# Altium footprint library amass_xt30upb-m.PcbLib: 1 footprints
Each footprint in its own frame and in the unit in brackets; x right, y up, seen from the top. Pads: shape width x height; smd on the part's side, far side on the other; paste and mask are expansions set on the pad; w line width, h text height; cw(c..) or ccw(c..) is an arc to the next point about the centre after c.
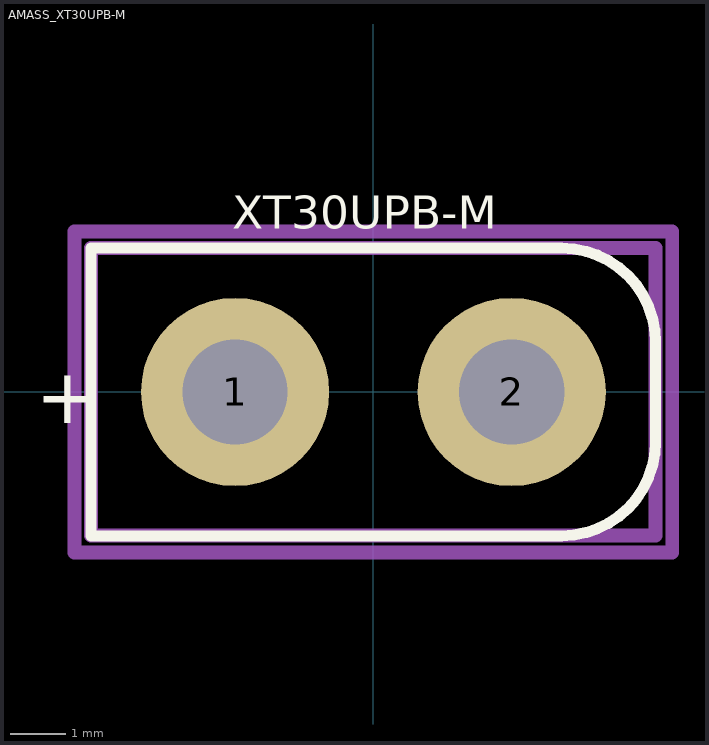
[diagram p0: the footprint, top view; thin cyan lines are the x and y axes]

## AMASS_XT30UPB-M [mm]
height 10.7
pads (2):
  round 3.4 hole 1.9: 1(-2.5,0) 2(2.5,0)
Top Overlay:
  lines w0.2: -5.1,-2.6 3.4,-2.6 ccw(c3.4,-0.9) 5.1,-0.9 5.1,0.9 ccw(c3.4,0.9) 3.4,2.6 -5.1,2.6 -5.1,-2.6
  text "+" at -6.1,-0.567 h1
  text "XT30UPB-M" at -2.55,2.95 h0.6
Top 3D Body (Mech13):
  lines w0.25: -5.1,-2.595 5.1,-2.595 5.1,2.605 -5.1,2.605 -5.1,-2.595
Top Courtyard:
  lines w0.25: -5.4,-2.9 5.4,-2.9 5.4,2.9 -5.4,2.9 -5.4,-2.9
Top Designator:
  text ".Designator" at -1.35,-0.45 h0.6
3D body "XT30UPB-M.step": height 9.4, standoff -2, extent -5.1,-2.595 5.1,2.605